# Altium footprint library SO.PcbLib: 9 footprints
Each footprint in its own frame and in the unit in brackets; x right, y up, seen from the top. Pads: shape width x height; smd on the part's side, far side on the other; paste and mask are expansions set on the pad; w line width, h text height; cw(c..) or ccw(c..) is an arc to the next point about the centre after c.
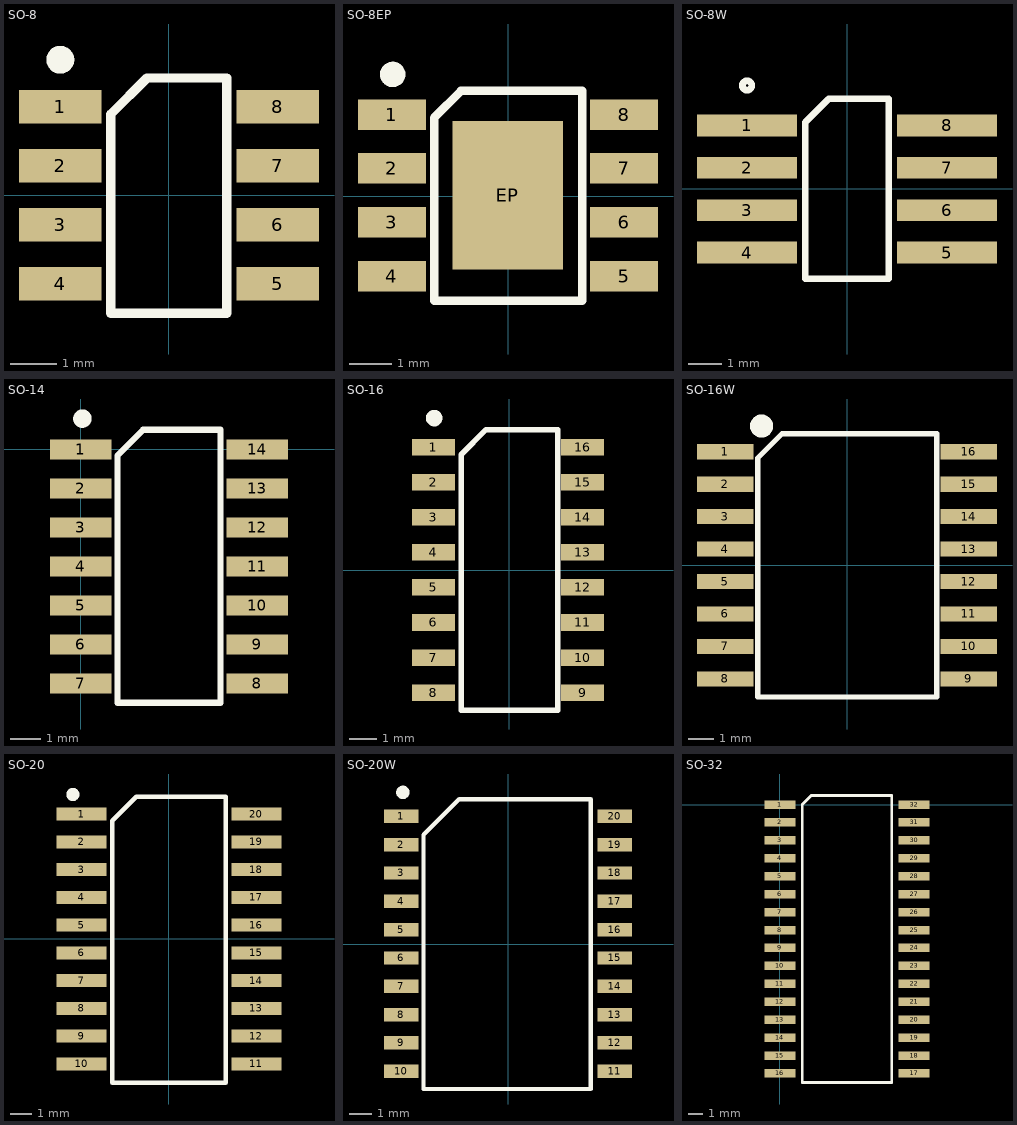
[diagram p0: the footprints below, top view; thin cyan lines are the x and y axes]

## SO-8 [mm]
pads (8):
  rect 1.78x0.72 smd: 1(-2.336,1.905) 2(-2.336,0.635) 3(-2.336,-0.635) 4(-2.336,-1.905) 5(2.344,-1.905) 6(2.344,-0.635) 7(2.344,0.635) 8(2.344,1.905)
Top Overlay:
  circle w0.3: c-2.336,2.921 r0.15
  lines w0.2: -1.25,-2.54 -1.25,1.75 -0.47,2.53 1.25,2.53 1.25,-2.54 -1.25,-2.54
3D body "SO-8.step": height 1.7, standoff 0, extent -2.986,-2.445 3.014,2.455

## SO-8EP [mm]
pads (9):
  rect 1.6x0.72 smd: 1(-2.744,1.925) 2(-2.744,0.655) 3(-2.744,-0.615) 4(-2.744,-1.885) 5(2.736,-1.885) 6(2.736,-0.615) 7(2.736,0.655) 8(2.736,1.925)
  rect 2.6x3.5 smd: EP(-0.008,0.02)
Top Overlay:
  circle w0.3: c-2.725,2.872 r0.15
  lines w0.2: -1.75,-2.47 1.75,-2.47 1.75,2.483 -1.117,2.483 -1.75,1.85 -1.75,-2.47
3D body "SO-8.step": height 1.7, standoff 0, extent -3,-2.45 3,2.45

## SO-8W [mm] "Wide"
pads (8):
  rect 3x0.65 smd: 1(-3,1.9) 2(-3,0.63) 3(-3,-0.64) 4(-3,-1.91) 5(3,-1.91) 6(3,-0.64) 7(3,0.63) 8(3,1.9)
Top Overlay:
  circle w0.2: c-3,3.1 r0.141
  lines w0.2: -1.25,-2.7 1.25,-2.7 1.25,2.7 -0.55,2.7 -1.25,2 -1.25,-2.7
3D body "User Library-SOIC8_Wide_5mmx5mm.STEP": height 1.75, standoff -0.01, extent -4.052,-2.73 4.05,2.73

## SO-14 [mm]
pads (14):
  rect 2x0.65 smd: 1(0,0) 2(0,-1.27) 3(0,-2.54) 4(0,-3.81) 5(0,-5.08) 6(0,-6.35) 7(0,-7.62) 8(5.75,-7.62) 9(5.75,-6.35) 10(5.75,-5.08) 11(5.75,-3.81) 12(5.75,-2.54) 13(5.75,-1.27) 14(5.75,0)
Top Overlay:
  circle w0.3: c0.053,1 r0.15
  lines w0.2: 1.2,-8.255 1.2,-0.197 2.032,0.635 4.55,0.635 4.55,-8.255 1.2,-8.255
3D body "User Library-SOIC-14.STEP": height 1.75, standoff 0, extent -0.125,-8.175 5.875,0.575

## SO-16 [mm]
pads (16):
  rect 1.55x0.6 smd: 1(-2.75,4.45) 2(-2.75,3.18) 3(-2.75,1.91) 4(-2.75,0.64) 5(-2.75,-0.63) 6(-2.75,-1.9) 7(-2.75,-3.17) 8(-2.75,-4.44) 9(2.65,-4.44) 10(2.65,-3.17) 11(2.65,-1.9) 12(2.65,-0.63) 13(2.65,0.64) 14(2.65,1.91) 15(2.65,3.18) 16(2.65,4.45)
Top Overlay:
  circle w0.3: c-2.725,5.5 r0.15
  lines w0.2: 0.225,5.085 -0.84,5.085 -1.75,4.175 -1.75,-5.075 1.75,-5.075 1.75,5.085 0.267,5.085
3D body "User Library-so16.STEP": height 1.7, standoff 0, extent -3.05,-5.1 2.95,5.1

## SO-16W [mm]
pads (16):
  rect 2.2x0.6 smd: 1(-4.775,4.45) 2(-4.775,3.18) 3(-4.775,1.91) 4(-4.775,0.64) 5(-4.775,-0.63) 6(-4.775,-1.9) 7(-4.775,-3.17) 8(-4.775,-4.44) 9(4.755,-4.44) 10(4.755,-3.17) 11(4.755,-1.9) 12(4.755,-0.63) 13(4.755,0.64) 14(4.755,1.91) 15(4.755,3.18) 16(4.755,4.45)
Top Overlay:
  circle w0.5: c-3.35,5.45 r0.2
  lines w0.2: -3.5,-5.15 3.5,-5.15 3.5,5.15 -2.55,5.15 -3.5,4.2 -3.5,-5.15
3D body "User Library-SOIC16_Wide_JEDEC_MS-013AA.step": height 2.62, standoff -0.03, extent -5.24,-5.25 5.39,5.25

## SO-20 [mm]
pads (20):
  rect 2.3x0.6 smd: 1(-4,5.7) 2(-4,4.43) 3(-4,3.16) 4(-4,1.89) 5(-4,0.62) 6(-4,-0.65) 7(-4,-1.92) 8(-4,-3.19) 9(-4,-4.46) 10(-4,-5.73) 11(4.002,-5.73) 12(4.002,-4.46) 13(4.002,-3.19) 14(4.002,-1.92) 15(4.002,-0.65) 16(4.002,0.62) 17(4.002,1.89) 18(4.002,3.16) 19(4.002,4.43) 20(4.002,5.7)
Top Overlay:
  circle w0.3: c-4.4,6.6 r0.15
  lines w0.2: -2.6,-6.6 2.6,-6.6 2.6,6.5 -1.5,6.5 -2.6,5.4 -2.6,-6.6
3D body "User Library-NS-PDSO-20.step": height 2, standoff 0, extent -3.9,-6.45 3.9,6.45

## SO-20W [mm]
pads (20):
  rect 1.55x0.6 smd: 1(-4.8,5.725) 2(-4.8,4.455) 3(-4.8,3.185) 4(-4.8,1.915) 5(-4.8,0.645) 6(-4.8,-0.625) 7(-4.8,-1.895) 8(-4.8,-3.165) 9(-4.8,-4.435) 10(-4.8,-5.705) 11(4.777,-5.705) 12(4.777,-4.435) 13(4.777,-3.165) 14(4.777,-1.895) 15(4.777,-0.625) 16(4.777,0.645) 17(4.777,1.915) 18(4.777,3.185) 19(4.777,4.455) 20(4.777,5.725)
Top Overlay:
  circle w0.3: c-4.725,6.8 r0.15
  lines w0.2: -3.8,-6.5 -3.8,4.9 -2.2,6.5 3.695,6.5 3.695,-6.5 -3.8,-6.5
3D body "User Library-SO-20 (Wide).step": height 2.7, standoff 0, extent -5.15,-6.4 5.15,6.4

## SO-32 [mm]
pads (32):
  rect 2.2x0.6 smd: 1(0,0) 2(0,-1.27) 3(0,-2.54) 4(0,-3.81) 5(0,-5.08) 6(0,-6.35) 7(0,-7.62) 8(0,-8.89) 9(0,-10.16) 10(0,-11.43) 11(0,-12.7) 12(0,-13.97) 13(0,-15.24) 14(0,-16.51) 15(0,-17.78) 16(0,-19.05) 17(9.5,-19.05) 18(9.5,-17.78) 19(9.5,-16.51) 20(9.5,-15.24) 21(9.5,-13.97) 22(9.5,-12.7) 23(9.5,-11.43) 24(9.5,-10.16) 25(9.5,-8.89) 26(9.5,-7.62) 27(9.5,-6.35) 28(9.5,-5.08) 29(9.5,-3.81) 30(9.5,-2.54) 31(9.5,-1.27) 32(9.5,0)
Top Overlay:
  lines w0.2: 1.585,-19.685 7.915,-19.685 7.915,0.635 2.22,0.635 1.585,0 1.585,-19.685
3D body "User Library-so32.step": height 2.85, standoff 0.05, extent -0.389,-19.895 9.889,0.895